# Altium footprint library apollo.PcbLib: 245 footprints (part 1 of 16)
Each footprint in its own frame and in the unit in brackets; x right, y up, seen from the top. Pads: shape width x height; smd on the part's side, far side on the other; paste and mask are expansions set on the pad; w line width, h text height; cw(c..) or ccw(c..) is an arc to the next point about the centre after c.
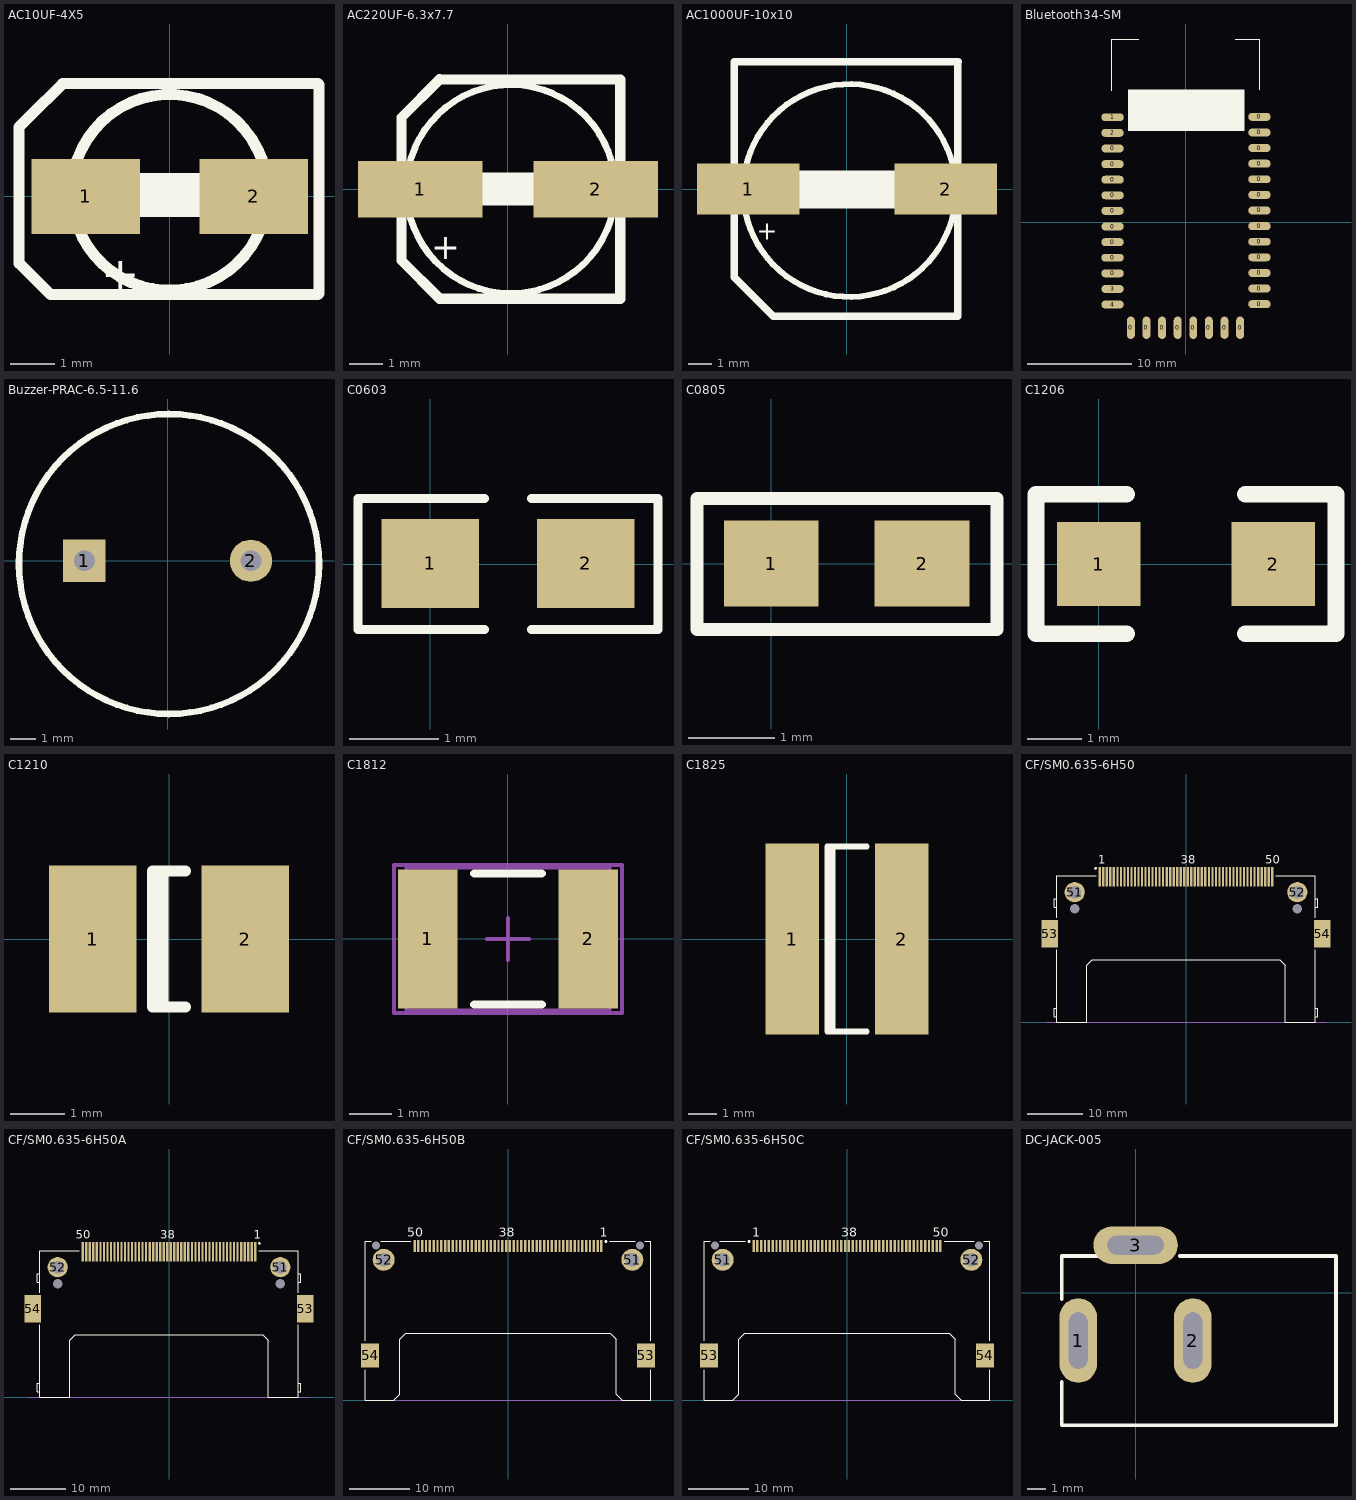
[diagram p0: the footprints below, top view; thin cyan lines are the x and y axes]

## AC10UF-4X5 [mm] "Aluminum  Capacitor, 直径4mm, 高5mm"
height 5
pads (2):
  rect 2.45x1.7 smd: 1(-1.9,0) 2(1.9,0)
Top Overlay:
  circle w0.254: c-0.006,0.091 r2.215
  rectangle: -1.022,-0.467 0.962,0.529
  lines w0.254: -3.409,-1.509 -2.698,-2.22 3.347,-2.22 3.373,-2.195 3.373,2.53 3.347,2.555 -2.368,2.555 -2.419,2.555 -3.181,1.793 -3.409,1.565 -3.409,-0.95 -3.409,-1.509
  text "+" at -1.546,-2.113 h0.76

## AC220UF-6.3x7.7 [mm] "Aluminum  Capacitor, 直径6.3mm, 高7.7mm"
height 7.7
pads (2):
  rect 3.75x1.7 smd: 1(-2.65,0) 2(2.65,0)
Top Overlay:
  rectangle: -0.904,-0.496 1.08,0.5
  lines w0.203: 3.017,1.154 cw(c0.086,0.002) 3.017,1.156
  lines w0.305: -2.063,-3.303 -3.214,-2.152 -3.214,2.163 -2.063,3.314 ; -2.061,-3.305 3.386,-3.305 3.386,3.309 -2.058,3.309
  text "+" at -2.321,-2.113 h0.76

## AC1000UF-10x10 [mm] "Aluminum  Capacitor, 直径10mm, 高10mm"
height 10
pads (2):
  rect 4.3x2.15 smd: 1(-4.15,0) 2(4.15,0)
Top Overlay:
  circle w0.254: c0.107,-0.061 r4.469
  rectangle: -2.404,-0.823 2.443,0.777
  lines w0.305: 4.602,-5.344 -2.687,-5.344 -3.094,-5.344 -4.739,-3.699 -4.739,-3.521 -4.739,-2.127 -4.739,5.349 4.679,5.349 ; 4.653,-5.344 4.653,5.324
  text "+" at -3.796,-2.138 h0.76

## Bluetooth34-SM [mm] "Bluetooth, 34pin SMD"
pads (34):
  oval 2.159x0.76 smd: 0(-7.06,-4.905) 0(-7.06,-3.405) 0(-7.06,-1.905) 0(-7.06,-0.405) 0(-7.06,1.095) 0(-7.06,2.595) 0(-7.06,4.095) 0(-7.06,5.595) 0(-7.06,7.095) 0(7.06,-7.865) 0(7.06,-6.365) 0(7.06,-4.865) 0(7.06,-3.365) 0(7.06,-1.865) 0(7.06,-0.365) 0(7.06,1.135) 0(7.06,2.635) 0(7.06,4.135) 0(7.06,5.635) 0(7.06,7.135) 0(7.06,8.635) 0(7.06,10.135) 1(-7.06,10.095) 2(-7.06,8.595) 3(-7.06,-6.405) 4(-7.06,-7.905)
  oval 0.76x2.159 smd: 0(-5.3,-10.135) 0(-3.8,-10.135) 0(-2.3,-10.135) 0(-0.8,-10.135) 0(0.7,-10.135) 0(2.2,-10.135) 0(3.7,-10.135) 0(5.2,-10.135)
Top Overlay:
  region: 5.616,8.76 5.616,12.759 -5.584,12.759 -5.584,8.76
  lines w0.1: -7.13,12.635 -7.13,17.615 -4.53,17.615 ; 4.741,17.615 7.07,17.615 7.07,12.762
3D body: height 2.5, standoff 0, extent -6.51,-9.42 6.49,17.58

## Buzzer-PRAC-6.5-11.6 [mil] "Buzzer, 圆柱形径向直插 ,6.5mm两脚跨距 , 圆柱直径11.6mm"
height 393.7
pads (2):
  rect 65x65 hole 32: 1(-127.95,0)
  round 65 hole 32: 2(127.95,0)
Top Overlay:
  circle w10: c2.05,-5 r230.49
3D body: height 338.66, standoff -212.52, extent -237.95,-240 234.49,232.44

## C0603 [mm] "Caparitor 0603"
height 1.45
pads (2):
  rect 1.1x1 smd: 1(0.001,0.006) 2(1.751,0.006)
Top Overlay:
  lines w0.102: 0.61,-0.737 -0.813,-0.737 -0.813,0.737 0.61,0.737 ; 1.143,-0.737 2.565,-0.737 2.565,0.737 1.143,0.737

## C0805 [mm] "Caparitor 0805"
height 2.032
pads (2):
  rect 1.1x1 smd: 1(0,0) 2(1.75,0)
Top Overlay:
  lines w0.15: -0.861,-0.767 -0.861,0.757 2.619,0.757 2.619,-0.767 -0.861,-0.767

## C1206 [mil] "Caparitor 1206"
pads (2):
  rect 60x60 smd: 1(0,0) 2(125,0)
Top Overlay:
  lines w12: 20,-50 -45,-50 -45,50 20,50 ; 105,-50 170,-50 170,50 105,50

## C1210 [mm] "Chip Capacitor; Body 3.2 x 2.5 mm (LxW typ)"
height 1.35
pads (2):
  rect 1.6x2.7 smd: 1(-1.4,0) 2(1.4,0)
Top Overlay:
  lines w0.2: -0.11,-1.25 -0.11,1.25 ; 0.3,-1.25 -0.3,-1.25 -0.3,1.25 0.3,1.25

## C1812 [mm] "Capacitor, Body 4.5x3.2mm"
height 1.4
pads (2):
  rect 1.4x3.3 smd: 1(-1.9,0) 2(1.9,0)
Top Overlay:
  lines w0.2: -0.8,-1.55 0.8,-1.55 ; -0.8,1.55 0.8,1.55
Mechanical 13:
  lines w0.1: -2.4,-1.7 -2.4,1.7 2.4,1.7 2.4,-1.7 -2.4,-1.7
Mechanical 15:
  lines w0.1: -0.5,0 0.5,0 ; 0,-0.5 0,0.5 ; -2.7,-1.75 -2.7,1.75 2.7,1.75 2.7,-1.75 -2.7,-1.75
3D body: height 1.4, standoff 0, extent -2.4,-1.7 2.4,1.7

## C1825 [mm] "Chip Capacitor; Body 4.5 x 6.4 mm (LxW typ)"
height 1.1
pads (2):
  rect 1.9x6.8 smd: 1(-1.95,0) 2(1.95,0)
Top Overlay:
  lines w0.2: -0.51,-3.3 -0.51,3.3 ; 0.7,-3.3 -0.7,-3.3 -0.7,3.3 0.7,3.3

## CF/SM0.635-6H50 [mm] "Connector; CompactFlash Card Header, SM; Normal Polarization; 50 Position; Right Angle; Pitch 0.635 mm"
height 6.72
pads (56):
  rect 0.4x3.5 smd: 1(-15.557,26.3) 2(-14.287,26.3) 3(-13.017,26.3) 4(-11.747,26.3) 5(-10.477,26.3) 6(-9.207,26.3) 7(-7.937,26.3) 8(-6.667,26.3) 9(-5.397,26.3) 10(-4.127,26.3) 11(-2.857,26.3) 12(-1.587,26.3) 13(-0.317,26.3) 14(0.953,26.3) 15(2.223,26.3) 16(3.493,26.3) 17(4.763,26.3) 18(6.033,26.3) 19(7.303,26.3) 20(8.573,26.3) 21(9.843,26.3) 22(11.113,26.3) 23(12.383,26.3) 24(13.653,26.3) 25(14.923,26.3) 26(-14.922,26.3) 27(-13.652,26.3) 28(-12.383,26.3) 29(-11.112,26.3) 30(-9.842,26.3) 31(-8.572,26.3) 32(-7.302,26.3) 33(-6.032,26.3) 34(-4.762,26.3) 35(-3.492,26.3) 36(-2.222,26.3) 37(-0.952,26.3) 38(0.318,26.3) 39(1.588,26.3) 40(2.858,26.3) 41(4.128,26.3) 42(5.398,26.3) 43(6.668,26.3) 44(7.938,26.3) 45(9.208,26.3) 46(10.478,26.3) 47(11.748,26.3) 48(13.018,26.3) 49(14.288,26.3) 50(15.558,26.3)
  round 3.65 hole 2.2: 51(-20.08,23.5) 52(20.08,23.5)
  rect 3x5 smd: 53(-24.565,16) 54(24.565,16)
  round 1.4 hole 1.7 unplated: 55(-20.08,20.5) 56(20.08,20.5)
Top Overlay:
  circle w0.25: c-16.3,27.8 r0.125
  lines w0.2: -23.3,1 -23.8,1 -23.8,2.54 -23.3,2.54 ; -23.3,13.1 -23.3,0 -17.95,0 -17.95,10.3 -16.95,11.3 16.95,11.3 17.95,10.3 17.95,0 23.3,0 23.3,13.1 ; -23.3,18.9 -23.3,26.5 -16.16,26.5 ; -23.3,20.76 -23.8,20.76 -23.8,22.3 -23.3,22.3 ; 16.16,26.5 23.3,26.5 23.3,18.9 ; 23.3,1 23.8,1 23.8,2.54 23.3,2.54 ; 23.3,20.76 23.8,20.76 23.8,22.3 23.3,22.3
  text "38" at -0.907,28.6 h1.5
  text "1" at -15.807,28.6 h1.5
  text "50" at 14.308,28.6 h1.5
Mechanical 1:
  lines w0.1: -25.3,0 25.3,0
  text "PCB Edge" at -17.3,0.45 h0.6

## CF/SM0.635-6H50A [mm] "Connector; CompactFlash Card Header, SM; lnverse Polarization; 50 Position; Right Angle; Pitch 0.635 mm"
height 6.72
pads (56):
  rect 0.4x3.5 smd: 1(15.558,26.3) 2(14.288,26.3) 3(13.018,26.3) 4(11.748,26.3) 5(10.478,26.3) 6(9.208,26.3) 7(7.938,26.3) 8(6.668,26.3) 9(5.398,26.3) 10(4.128,26.3) 11(2.858,26.3) 12(1.588,26.3) 13(0.318,26.3) 14(-0.952,26.3) 15(-2.222,26.3) 16(-3.492,26.3) 17(-4.762,26.3) 18(-6.032,26.3) 19(-7.302,26.3) 20(-8.572,26.3) 21(-9.842,26.3) 22(-11.112,26.3) 23(-12.382,26.3) 24(-13.652,26.3) 25(-14.922,26.3) 26(14.923,26.3) 27(13.653,26.3) 28(12.383,26.3) 29(11.113,26.3) 30(9.843,26.3) 31(8.573,26.3) 32(7.303,26.3) 33(6.033,26.3) 34(4.763,26.3) 35(3.493,26.3) 36(2.223,26.3) 37(0.953,26.3) 38(-0.317,26.3) 39(-1.587,26.3) 40(-2.857,26.3) 41(-4.127,26.3) 42(-5.397,26.3) 43(-6.667,26.3) 44(-7.937,26.3) 45(-9.207,26.3) 46(-10.477,26.3) 47(-11.747,26.3) 48(-13.017,26.3) 49(-14.287,26.3) 50(-15.557,26.3)
  round 3.65 hole 2.2: 51(20.08,23.5) 52(-20.08,23.5)
  rect 3x5 smd: 53(24.565,16) 54(-24.565,16)
  round 1.4 hole 1.7 unplated: 55(20.08,20.5) 56(-20.08,20.5)
Top Overlay:
  circle w0.25: c16.3,27.8 r0.125
  lines w0.2: -23.3,1 -23.8,1 -23.8,2.54 -23.3,2.54 ; -23.3,13.1 -23.3,0 -17.95,0 -17.95,10.3 -16.95,11.3 16.95,11.3 17.95,10.3 17.95,0 23.3,0 23.3,13.1 ; -23.3,18.9 -23.3,26.5 -16.16,26.5 ; -23.3,20.76 -23.8,20.76 -23.8,22.3 -23.3,22.3 ; 16.16,26.5 23.3,26.5 23.3,18.9 ; 23.3,1 23.8,1 23.8,2.54 23.3,2.54 ; 23.3,20.76 23.8,20.76 23.8,22.3 23.3,22.3
  text "1" at 15.308,28.6 h1.5
  text "50" at -16.807,28.6 h1.5
  text "38" at -1.567,28.6 h1.5
Mechanical 1:
  lines w0.1: -25.3,0 25.3,0
  text "PCB Edge" at -17.3,0.45 h0.6

## CF/SM0.635-6H50B [mm] "Connector; CompactFlash Card Header, SM; Reverse Mount; 50 Position; Right Angle; Pitch 0.635 mm"
height 6.8
pads (56):
  rect 0.4x2 smd: 1(15.557,25.7) 2(14.287,25.7) 3(13.018,25.7) 4(11.747,25.7) 5(10.477,25.7) 6(9.207,25.7) 7(7.938,25.7) 8(6.667,25.7) 9(5.397,25.7) 10(4.127,25.7) 11(2.857,25.7) 12(1.587,25.7) 13(0.318,25.7) 14(-0.953,25.7) 15(-2.222,25.7) 16(-3.492,25.7) 17(-4.763,25.7) 18(-6.032,25.7) 19(-7.302,25.7) 20(-8.572,25.7) 21(-9.842,25.7) 22(-11.112,25.7) 23(-12.383,25.7) 24(-13.652,25.7) 25(-14.922,25.7) 26(14.922,25.7) 27(13.652,25.7) 28(12.383,25.7) 29(11.112,25.7) 30(9.842,25.7) 31(8.572,25.7) 32(7.302,25.7) 33(6.032,25.7) 34(4.763,25.7) 35(3.492,25.7) 36(2.222,25.7) 37(0.953,25.7) 38(-0.318,25.7) 39(-1.587,25.7) 40(-2.857,25.7) 41(-4.127,25.7) 42(-5.397,25.7) 43(-6.667,25.7) 44(-7.938,25.7) 45(-9.207,25.7) 46(-10.477,25.7) 47(-11.747,25.7) 48(-13.018,25.7) 49(-14.287,25.7) 50(-15.557,25.7)
  round 3.65 hole 2.3: 51(20.7,23.4) 52(-20.7,23.4)
  rect 3x4 smd: 53(22.98,7.5) 54(-22.98,7.5)
  round 1 hole 1.3 unplated: 55(22,25.8) 56(-22,25.8)
Top Overlay:
  circle w0.25: c16.3,26.45 r0.125
  lines w0.2: -23.8,5.1 -23.8,0 -19,0 -18,1 -18,10.2 -17,11.2 17,11.2 18,10.2 18,1 19,0 23.8,0 23.8,5.1 ; -23.8,9.9 -23.8,26.5 -22.8,26.5 ; -21.2,26.5 -16.16,26.5 ; 16.957,26.5 21.2,26.5 ; 22.8,26.5 23.8,26.5 23.8,9.9
  text "50" at -16.808,27.25 h1.5
  text "1" at 15.308,27.25 h1.5
  text "38" at -1.568,27.25 h1.5
Mechanical 1:
  lines w0.1: -23.8,0 23.8,0
  text "PCB Edge" at -17.3,0.45 h0.6

## CF/SM0.635-6H50C [mm] "Connector; CompactFlash Card Header, SM; Standard Mount; 50 Position; Right Angle; Pitch 0.635 mm"
height 6.8
pads (56):
  rect 0.4x2 smd: 1(-15.557,25.7) 2(-14.287,25.7) 3(-13.018,25.7) 4(-11.747,25.7) 5(-10.477,25.7) 6(-9.207,25.7) 7(-7.938,25.7) 8(-6.667,25.7) 9(-5.397,25.7) 10(-4.127,25.7) 11(-2.857,25.7) 12(-1.587,25.7) 13(-0.318,25.7) 14(0.953,25.7) 15(2.222,25.7) 16(3.492,25.7) 17(4.763,25.7) 18(6.032,25.7) 19(7.302,25.7) 20(8.572,25.7) 21(9.842,25.7) 22(11.112,25.7) 23(12.383,25.7) 24(13.652,25.7) 25(14.922,25.7) 26(-14.922,25.7) 27(-13.652,25.7) 28(-12.383,25.7) 29(-11.112,25.7) 30(-9.842,25.7) 31(-8.572,25.7) 32(-7.302,25.7) 33(-6.032,25.7) 34(-4.763,25.7) 35(-3.492,25.7) 36(-2.222,25.7) 37(-0.953,25.7) 38(0.318,25.7) 39(1.587,25.7) 40(2.857,25.7) 41(4.127,25.7) 42(5.397,25.7) 43(6.667,25.7) 44(7.938,25.7) 45(9.207,25.7) 46(10.477,25.7) 47(11.747,25.7) 48(13.018,25.7) 49(14.287,25.7) 50(15.557,25.7)
  round 3.65 hole 2.3: 51(-20.7,23.4) 52(20.7,23.4)
  rect 3x4 smd: 53(-22.98,7.5) 54(22.98,7.5)
  round 1 hole 1.3 unplated: 55(-22,25.8) 56(22,25.8)
Top Overlay:
  circle w0.25: c-16.3,26.45 r0.125
  lines w0.2: -23.8,5.1 -23.8,0 -19,0 -18,1 -18,10.2 -17,11.2 17,11.2 18,10.2 18,1 19,0 23.8,0 23.8,5.1 ; -23.8,9.9 -23.8,26.5 -22.8,26.5 ; -21.2,26.5 -16.957,26.5 ; 16.16,26.5 21.2,26.5 ; 22.8,26.5 23.8,26.5 23.8,9.9
  text "50" at 14.307,27.25 h1.5
  text "1" at -15.807,27.25 h1.5
  text "38" at -0.933,27.25 h1.5
Mechanical 1:
  lines w0.1: -23.8,0 23.8,0
  text "PCB Edge" at -17.3,0.45 h0.6

## DC-JACK-005 [mm] "引脚针直径2.5mm, 插槽孔直径6.4mm"
height 11
pads (3):
  oval 2x4.5 hole 1 slot 3 at 90 deg: 1(-3.048,-2.54) 2(3.048,-2.54)
  oval 4.5x2 hole 1 slot 3 at 0 deg: 3(0,2.54)
Top Overlay:
  lines w0.2: -3.932,-4.74 -3.932,-7.04 10.668,-7.04 10.668,1.96 2.368,1.96 ; -3.932,-0.34 -3.932,1.96 -2.032,1.96
3D body: height 11, standoff 0, extent -3.937,-6.985 10.668,1.905